# Altium schematic symbol library ZXGD3006E6QTA.SchLib: 1 symbol
Pins are listed as number, name and electrical type; pins without a type are passive.

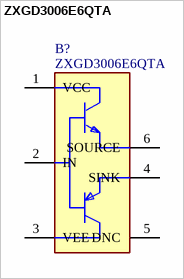
[diagram p0: symbol ZXGD3006E6QTA]

## ZXGD3006E6QTA
designator B?
Gate Drivers 10A Gate Driver 40V 9.5ns; Manufacturer_Name: Diodes Incorporated; Geometry.Height: 1.4mm; Mouser Part Number: 621-ZXGD3006E6QTA; Mouser Price/Stock: https://www.mouser.co.uk/ProductDetail/Diodes-Incorporated/ZXGD3006E6QTA?qs=%252Bk6%2F5FB6qrkSqHfjmaZYTQ%3D%3D; Manufacturer_Part_Number: ZXGD3006E6QTA; Datasheet Link: https://www.diodes.com/assets/Datasheets/ZXGD3006E6.pdf
footprint SOT95P285X140-6N
pins: 1 VCC, 2 IN, 3 VEE, 4 SINK, 5 DNC, 6 SOURCE